# EAGLE library part MCP73837/8 (library MCP73837)
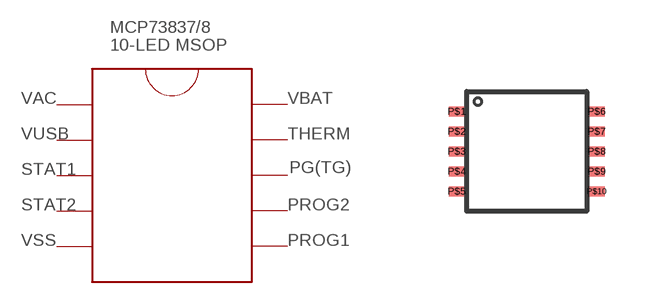
[diagram p0: symbol with the pads of MCP73837/8; footprint MCP73837/8]

Designator prefix -

## MCP73837/8  [MCP73837/8]
P$1  P$1
P$2  P$2
P$3  P$3
P$4  P$4
P$5  P$5
P$6  P$6
P$7  P$7
P$8  P$8
P$9  P$9
P$10  P$10

## Footprint MCP73837/8 (pad centres in mm)
smd 0.4 x 0.25: P$1 -3.25,8.5; P$2 -3.25,8; P$3 -3.25,7.5; P$4 -3.25,7; P$5 -3.25,6.5; P$6 0.25,8.5; P$7 0.25,8; P$8 0.25,7.5; P$9 0.25,7; P$10 0.25,6.5